# EAGLE library part SMD_PROG_HEADER (library con-special_purpose)
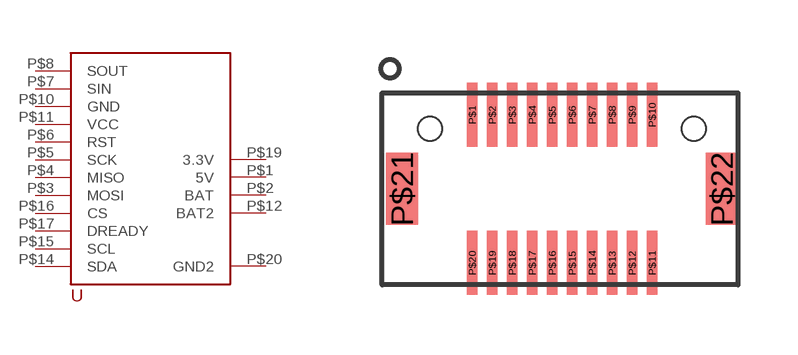
[diagram p7: symbol with the pads of SMD_HEADER_DF12-20; footprint SMD_HEADER_DF12-20]

Designator prefix -

## SMD_PROG_HEADER (PLACE_PART: YES)  [SMD_HEADER_DF12-20]
P$1  5V
P$2  BAT
P$3  MOSI
P$4  MISO
P$5  SCK
P$6  RST
P$7  SIN
P$8  SOUT
P$10  GND
P$11  VCC
P$12  BAT2
P$14  SDA
P$15  SCL
P$16  CS
P$17  DREADY
P$19  3.3V
P$20  GND2

## Footprint SMD_HEADER_DF12-20 (pad centres in mm)
smd 0.27 x 1.6: P$1 -2.25,1.85; P$2 -1.75,1.85; P$3 -1.25,1.85; P$4 -0.75,1.85; P$5 -0.25,1.85; P$6 0.25,1.85; P$7 0.75,1.85; P$8 1.25,1.85; P$9 1.75,1.85; P$10 2.25,1.85; P$11 2.25,-1.85; P$12 1.75,-1.85; P$13 1.25,-1.85; P$14 0.75,-1.85; P$15 0.25,-1.85; P$16 -0.25,-1.85; P$17 -0.75,-1.85; P$18 -1.25,-1.85; P$19 -1.75,-1.85; P$20 -2.25,-1.85
smd 0.8 x 1.8: P$21 -4,0; P$22 4,0
hole 0.6 at -3.3,1.5
hole 0.6 at 3.3,1.5